# Altium schematic symbol library ComparatorLib.SchLib: 2 symbols
Pins are listed as number, name and electrical type; pins without a type are passive.

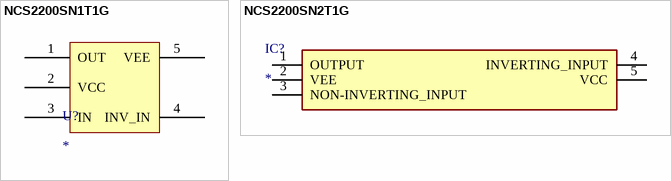
[diagram p0: symbols NCS2200SN1T1G to NCS2200SN2T1G]

## NCS2200SN1T1G
designator U?
footprint NCS2200SN1T1G
pins: 1 OUT, 2 VCC, 3 IN, 4 INV_IN, 5 VEE

## NCS2200SN2T1G
designator IC?
Integrated Circuit; Manufacturer_Name: ON Semiconductor; Manufacturer_Part_Number: NCS2200SN2T1G; Datasheet Link: http://www.onsemi.com/pub/Collateral/NCS2200-D.PDF; Height: 1.1mm
footprint SOT95P275X110-5N
pins: 1 OUTPUT, 2 VEE, 3 NON-INVERTING_INPUT, 4 INVERTING_INPUT, 5 VCC